# EAGLE library part 24 (library 24header)
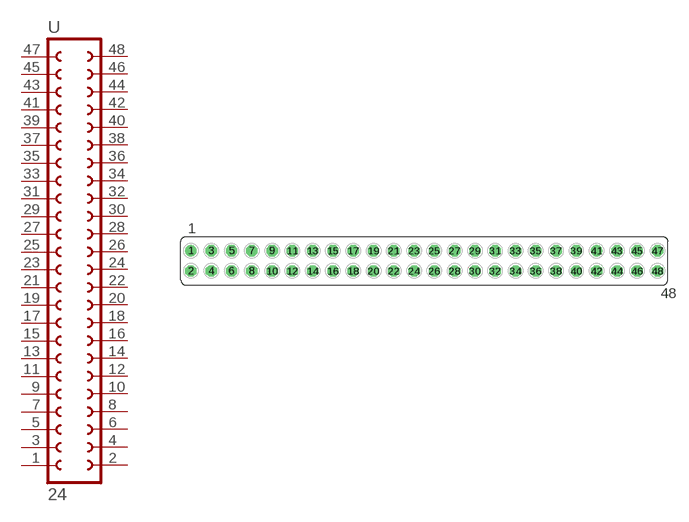
[diagram p0: symbol with the pads of 24; footprint 24]

Designator prefix -

## 24  [24]
1  1  pas
2  2  pas
3  3  pas
4  4  pas
5  5  pas
6  6  pas
7  7  pas
8  8  pas
9  9  pas
10  10  pas
11  11  pas
12  12  pas
13  13  pas
14  14  pas
15  15  pas
16  16  pas
17  17  pas
18  18  pas
19  19  pas
20  20  pas
21  21  pas
22  22  pas
23  23  pas
24  24  pas
25  25  pas
26  26  pas
27  27  pas
28  28  pas
29  29  pas
30  30  pas
31  31  pas
32  32  pas
33  33  pas
34  34  pas
35  35  pas
36  36  pas
37  37  pas
38  38  pas
39  39  pas
40  40  pas
41  41  pas
42  42  pas
43  43  pas
44  44  pas
45  45  pas
46  46  pas
47  47  pas
48  48  pas

## Footprint 24 (pad centres in mm)
drill 0.914: 1 1.27,-2.54; 41 52.07,-2.54
drill 0.914 octagon: 2 1.27,-5.08; 3 3.81,-2.54; 4 3.81,-5.08; 5 6.35,-2.54; 6 6.35,-5.08; 7 8.89,-2.54; 8 8.89,-5.08; 9 11.43,-2.54; 10 11.43,-5.08; 11 13.97,-2.54; 12 13.97,-5.08; 13 16.51,-2.54; 14 16.51,-5.08; 15 19.05,-2.54; 16 19.05,-5.08; 17 21.59,-2.54; 18 21.59,-5.08; 19 24.13,-2.54; 20 24.13,-5.08; 21 26.67,-2.54; 22 26.67,-5.08; 23 29.21,-2.54; 24 29.21,-5.08; 25 31.75,-2.54; 26 31.75,-5.08; 27 34.29,-2.54; 28 34.29,-5.08; 29 36.83,-2.54; 30 36.83,-5.08; 31 39.37,-2.54; 32 39.37,-5.08; 33 41.91,-2.54; 34 41.91,-5.08; 35 44.45,-2.54; 36 44.45,-5.08; 37 46.99,-2.54; 38 46.99,-5.08; 39 49.53,-2.54; 40 49.53,-5.08; 42 52.07,-5.08; 43 54.61,-2.54; 44 54.61,-5.08; 45 57.15,-2.54; 46 57.15,-5.08; 47 59.69,-2.54; 48 59.69,-5.08